# Altium integrated library TactileButton_4x4.IntLib: 1 symbol
Pins are listed as number, name and electrical type; pins without a type are passive.

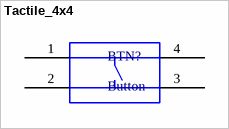
[diagram p0: symbol Tactile_4x4]

## Tactile_4x4
designator BTN?, comment Button
footprint TactileButton_4x4 (Tactile Button 4mm x 4mm H=1.5mm SMD 4-Pin)
pins: 1 Pin1, 2 Pin2, 3 Pin3, 4 Pin4